# Altium footprint library tong hop thu vien 3D.PcbLib: 1 footprints
Each footprint in its own frame and in the unit in brackets; x right, y up, seen from the top. Pads: shape width x height; smd on the part's side, far side on the other; paste and mask are expansions set on the pad; w line width, h text height; cw(c..) or ccw(c..) is an arc to the next point about the centre after c.
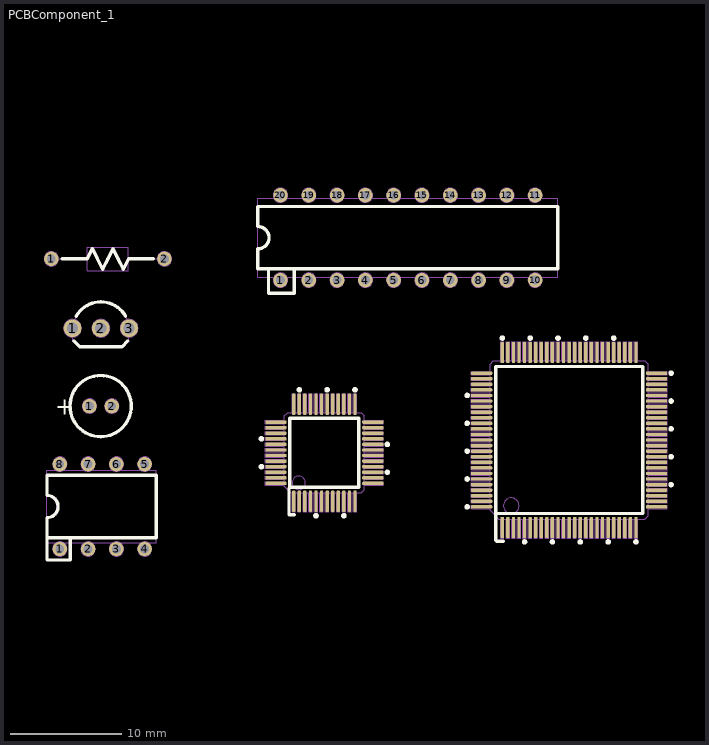
[diagram p0: the footprint, top view; thin cyan lines are the x and y axes]

## PCBComponent_1 [mm]
pads (183):
  round 1.3 hole 0.8: 1(-989.711,-975.995) 1(-988.949,-1002.03) 1(-986.282,-989.203) 1(-969.137,-977.9) 2(-986.409,-1002.03) 2(-984.282,-989.203) 2(-979.551,-975.995) 2(-966.597,-977.9) 3(-983.869,-1002.03) 3(-964.057,-977.9) 4(-981.329,-1002.03) 4(-961.517,-977.9) 5(-981.329,-994.41) 5(-958.977,-977.9) 6(-983.869,-994.41) 6(-956.437,-977.9) 7(-986.409,-994.41) 7(-953.897,-977.9) 8(-988.949,-994.41) 8(-951.357,-977.9) 9(-948.817,-977.9) 10(-946.277,-977.9) 11(-946.277,-970.28) 12(-948.817,-970.28) 13(-951.357,-970.28) 14(-953.897,-970.28) 15(-956.437,-970.28) 16(-958.977,-970.28) 17(-961.517,-970.28) 18(-964.057,-970.28) 19(-966.597,-970.28) 20(-969.137,-970.28)
  round 1.6 hole 1 mask+0.1: 1(-987.806,-982.218) 2(-985.266,-982.218)
  rrect50% 0.3x1.9 smd mask+0.05: 1(-967.95,-997.744) 1(-949.229,-1000.101) 2(-967.45,-997.744) 2(-948.729,-1000.101) 3(-966.95,-997.744) 3(-948.229,-1000.101) 4(-966.45,-997.744) 4(-947.729,-1000.101) 5(-965.95,-997.744) 5(-947.229,-1000.101) 6(-965.45,-997.744) 6(-946.729,-1000.101) 7(-964.95,-997.744) 7(-946.229,-1000.101) 8(-964.45,-997.744) 8(-945.729,-1000.101) 9(-963.95,-997.744) 9(-945.229,-1000.101) 10(-963.45,-997.744) 10(-944.729,-1000.101) 11(-962.95,-997.744) 11(-944.229,-1000.101) 12(-962.45,-997.744) 12(-943.729,-1000.101) 13(-943.229,-1000.101) 14(-942.729,-1000.101) 15(-942.229,-1000.101) 16(-941.729,-1000.101) 17(-941.229,-1000.101) 18(-940.729,-1000.101) 19(-940.229,-1000.101) 20(-939.729,-1000.101) 21(-939.229,-1000.101) 22(-938.729,-1000.101) 23(-938.229,-1000.101) 24(-937.729,-1000.101) 25(-962.45,-989.044) 25(-937.229,-1000.101) 26(-962.95,-989.044) 27(-963.45,-989.044) 28(-963.95,-989.044) 29(-964.45,-989.044) 30(-964.95,-989.044) 31(-965.45,-989.044) 32(-965.95,-989.044) 33(-966.45,-989.044) 34(-966.95,-989.044) 35(-967.45,-989.044) 36(-967.95,-989.044) 51(-937.229,-984.401) 52(-937.729,-984.401) 53(-938.229,-984.401) 54(-938.729,-984.401) 55(-939.229,-984.401) 56(-939.729,-984.401) 57(-940.229,-984.401) 58(-940.729,-984.401) 59(-941.229,-984.401) 60(-941.729,-984.401) 61(-942.229,-984.401) 62(-942.729,-984.401) 63(-943.229,-984.401) 64(-943.729,-984.401) 65(-944.229,-984.401) 66(-944.729,-984.401) 67(-945.229,-984.401) 68(-945.729,-984.401) 69(-946.229,-984.401) 70(-946.729,-984.401) 71(-947.229,-984.401) 72(-947.729,-984.401) 73(-948.229,-984.401) 74(-948.729,-984.401) 75(-949.229,-984.401)
  round 1.6 hole 1: 3(-982.726,-982.218)
  rrect50% 1.9x0.3 smd mask+0.05: 13(-960.85,-996.144) 14(-960.85,-995.644) 15(-960.85,-995.144) 16(-960.85,-994.644) 17(-960.85,-994.144) 18(-960.85,-993.644) 19(-960.85,-993.144) 20(-960.85,-992.644) 21(-960.85,-992.144) 22(-960.85,-991.644) 23(-960.85,-991.144) 24(-960.85,-990.644) 26(-935.379,-998.251) 27(-935.379,-997.751) 28(-935.379,-997.251) 29(-935.379,-996.751) 30(-935.379,-996.251) 31(-935.379,-995.751) 32(-935.379,-995.251) 33(-935.379,-994.751) 34(-935.379,-994.251) 35(-935.379,-993.751) 36(-935.379,-993.251) 37(-969.55,-990.644) 37(-935.379,-992.751) 38(-969.55,-991.144) 38(-935.379,-992.251) 39(-969.55,-991.644) 39(-935.379,-991.751) 40(-969.55,-992.144) 40(-935.379,-991.251) 41(-969.55,-992.644) 41(-935.379,-990.751) 42(-969.55,-993.144) 42(-935.379,-990.251) 43(-969.55,-993.644) 43(-935.379,-989.751) 44(-969.55,-994.144) 44(-935.379,-989.251) 45(-969.55,-994.644) 45(-935.379,-988.751) 46(-969.55,-995.144) 46(-935.379,-988.251) 47(-969.55,-995.644) 47(-935.379,-987.751) 48(-969.55,-996.144) 48(-935.379,-987.251) 49(-935.379,-986.751) 50(-935.379,-986.251) 76(-951.079,-986.251) 77(-951.079,-986.751) 78(-951.079,-987.251) 79(-951.079,-987.751) 80(-951.079,-988.251) 81(-951.079,-988.751) 82(-951.079,-989.251) 83(-951.079,-989.751) 84(-951.079,-990.251) 85(-951.079,-990.751) 86(-951.079,-991.251) 87(-951.079,-991.751) 88(-951.079,-992.251) 89(-951.079,-992.751) 90(-951.079,-993.251) 91(-951.079,-993.751) 92(-951.079,-994.251) 93(-951.079,-994.751) 94(-951.079,-995.251) 95(-951.079,-995.751) 96(-951.079,-996.251) 97(-951.079,-996.751) 98(-951.079,-997.251) 99(-951.079,-997.751) 100(-951.079,-998.251)
Top Overlay:
  circle w0.3: c-939.729,-1001.401 r0.1
  circle w0.3: c-942.229,-1001.401 r0.1
  circle w0.3: c-944.729,-1001.401 r0.1
  circle w0.3: c-947.229,-1001.401 r0.1
  circle w0.3: c-934.079,-996.251 r0.1
  circle w0.3: c-939.229,-983.101 r0.1
  circle w0.3: c-952.379,-988.251 r0.1
  circle w0.3: c-934.079,-993.751 r0.1
  circle w0.3: c-934.079,-991.251 r0.1
  circle w0.3: c-941.729,-983.101 r0.1
  circle w0.3: c-944.229,-983.101 r0.1
  circle w0.3: c-946.729,-983.101 r0.1
  circle w0.3: c-952.379,-990.751 r0.1
  circle w0.3: c-952.379,-993.251 r0.1
  circle w0.3: c-952.379,-995.751 r0.1
  circle w0.3: c-934.079,-988.751 r0.1
  circle w0.3: c-934.079,-986.251 r0.1
  circle w0.3: c-949.229,-983.101 r0.1
  circle w0.3: c-952.379,-998.251 r0.1
  circle w0.3: c-937.229,-1001.401 r0.1
  circle w0.3: c-965.95,-999.044 r0.1
  circle w0.3: c-963.45,-999.044 r0.1
  circle w0.3: c-959.55,-992.644 r0.1
  circle w0.3: c-962.45,-987.744 r0.1
  circle w0.3: c-964.95,-987.744 r0.1
  circle w0.3: c-967.45,-987.744 r0.1
  circle w0.3: c-970.85,-992.144 r0.1
  circle w0.3: c-970.85,-994.644 r0.1
  circle w0.3: c-959.55,-995.144 r0.1
  circle w0.3: c-985.282,-989.203 r2.75
  lines w0.3: -988.731,-975.995 -986.485,-975.995 -986.019,-975.07 ; -987.999,-1001.02 -987.999,-1003.02 -990.099,-1003.02 -990.099,-1001.02 ; -987.679,-983.361 -987.171,-983.869 -983.361,-983.869 -982.853,-983.361 ; -987.478,-981.144 cw(c-985.26,-982.403) -983.045,-981.139 ; -980.531,-975.995 -982.777,-975.995 -983.243,-976.92 -983.706,-975.995 -984.168,-975.07 -984.631,-975.995 -985.093,-976.92 -985.556,-975.995 ; -970.207,-976.89 -970.207,-979.09 -967.907,-979.09 -967.907,-976.89 ; -967.88,-998.954 -968.37,-998.954 -968.37,-996.554 -968.31,-996.494 -968.3,-996.494 ; -949.129,-1001.351 -949.729,-1001.351 -949.829,-1001.251 -949.829,-998.851 ; -990.099,-1001.02 -990.099,-999.22 ccw(c-990.099,-998.22) -990.099,-997.22 -990.099,-995.42 -980.299,-995.42 -980.299,-1001.02 -990.099,-1001.02 ; -986.019,-975.07 -986.018,-975.07 ; -986.018,-975.07 -985.556,-975.995 ; -985.556,-975.995 -985.556,-975.995 ; -968.3,-996.494 -962.1,-996.494 -962.1,-990.294 -968.3,-990.294 -968.3,-996.494 ; -949.829,-998.851 -936.629,-998.851 -936.629,-985.651 -949.829,-985.651 -949.829,-998.851 ; -971.167,-976.89 -944.247,-976.89 -944.247,-971.29 -971.167,-971.29 -971.167,-973.09 cw(c-971.167,-974.09) -971.167,-975.09 -971.167,-976.89
  text "+" at -989.346,-989.965 h1.5
Mechanical 1:
  drawing of 668 lines, arcs and shapes, not listed
  text "100" at -949.329,-998.551 h0.8
  text "76" at -949.329,-987.451 h0.8
  text "75" at -949.329,-986.151 h0.8
  text "51" at -938.029,-986.051 h0.8
  text "50" at -936.329,-987.451 h0.8
  text "26" at -936.429,-998.251 h0.8
  text "25" at -938.429,-999.151 h0.8
  text "12" at -963.9,-996.794 h0.8
  text "13" at -961.8,-996.294 h0.8
  text "24" at -961.8,-991.894 h0.8
  text "25" at -964,-990.794 h0.8
  text "36" at -968.1,-990.794 h0.8
  text "37" at -967.8,-991.894 h0.8
  text "48" at -967.9,-995.894 h0.8
  text "20" at -970.107,-972.79 h1.2
  text "11" at -947.007,-972.79 h1.2
  text "10" at -947.007,-976.49 h1.2
  text "1" at -969.407,-976.59 h1.2
  text "1" at -989.199,-1001.12 h1
  text "4" at -981.699,-1001.12 h1
  text "5" at -981.699,-996.22 h1
  text "8" at -989.299,-996.22 h1
  text "E" at -988.06,-982.599 h0.8
  text "C" at -985.52,-982.599 h0.8
  text "B" at -982.98,-982.599 h0.8
  text "2" at -984.582,-989.703 h1
  text "1" at -986.482,-989.703 h1
  text "+" at -987.782,-989.703 h1
Mechanical 15:
  lines w0.1: -985.766,-982.218 -984.766,-982.218 ; -985.266,-982.718 -985.266,-981.718
3D body: height 1.75, standoff 0, extent -951.243,-1000.265 -935.215,-984.237
3D body: height 1.56, standoff 0.06, extent -969.707,-997.902 -960.692,-988.886
3D body: height 3.94, standoff -3.3, extent -971.448,-978.357 -945.134,-969.721
3D body: height 4.57, standoff -3.81, extent -990.154,-1002.13 -980.244,-994.31
3D body: height 10, standoff -3, extent -988.056,-983.808 -982.476,-979.605
3D body: height 2.93, standoff -2.54, extent -990.016,-977.151 -979.246,-974.839
3D body: height 11.53, standoff -3.27, extent -987.807,-991.728 -982.757,-986.678